# EAGLE library part SOCKET-10 (library con-3m-skt-header)
10 pin PCB Socket (3m 85xx/51xx)
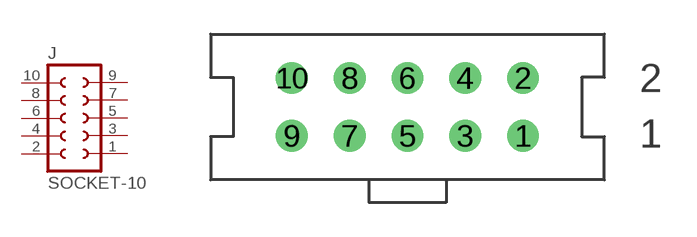
[diagram p1: symbol with the pads of S10V; footprint S10V]

Designator prefix J

## SOCKET-10V  [S10V]
1  1  pas
2  2  pas
3  3  pas
4  4  pas
5  5  pas
6  6  pas
7  7  pas
8  8  pas
9  9  pas
10  10  pas

## Footprint S10V (pad centres in mm)
10 pin Vertical PCB Socket 8510-xxxxx
drill 0.8 pad 1.4 round: 1 5.08,-1.27; 2 5.08,1.27; 3 2.54,-1.27; 4 2.54,1.27; 5 0,-1.27; 6 0,1.27; 7 -2.54,-1.27; 8 -2.54,1.27; 9 -5.08,-1.27; 10 -5.08,1.27